# EAGLE library part 615008160121 (library Wurth-USB)
WR-MJ Modular Jack THT Horizontal Shielded 8P8C Tab Up MATERIAL PROPERTIES Insulator Material PA9T Insulator Flammability Rating UL94 V-0 Insulator Color Black Contact Material Copper Alloy Contact Plating 6u' on contact plating Contact Type Stamped GENERAL INFORMATION Operating Temperature -40 up to +85 °C ELECTRICAL PROPERTIES Working Voltage 125 V (AC) Contact Resistance 35 mΩ RISO 1000 MΩ PACKAGING PROPERTIES Packaging Tray <https://katalog.we-online.com/media/images/v2/o161615v209%20Family_WR-MJTH_615008160121.jpg> Details see: https://katalog.we-online.com/en/em/MJ_THT_HORIZONTAL_SHIELDED_8P8C_TAB_UP Created by Ella Wu 2019-11-05 2019(C) Wurth Elektronik
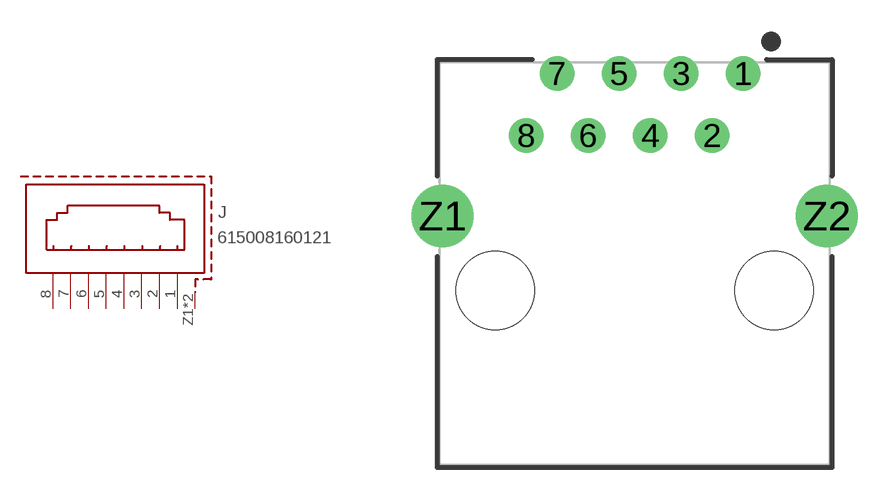
[diagram p197: symbol with the pads of 615008160121; footprint 615008160121]

Designator prefix J

## 615008160121  [615008160121]
1  1  pas
2  2  pas
3  3  pas
4  4  pas
5  5  pas
6  6  pas
7  7  pas
8  8  pas
Z1  SHIELD  pas
Z2  SHIELD  pas

## Footprint 615008160121 (pad centres in mm)
drill 0.89: 1 4.445,8.89; 2 3.175,6.35; 3 1.905,8.89; 4 0.635,6.35; 5 -0.635,8.89; 6 -1.905,6.35; 7 -3.175,8.89; 8 -4.445,6.35
drill 1.7: Z1 -7.875,3.05; Z2 7.875,3.05
hole 3.2 at -5.715,0
hole 3.2 at 5.715,0